# EAGLE library part LIS3DSH (library IntegratedLib)
ultra-low-power highperformance three-axis linear accelerometer. (LGA-16)
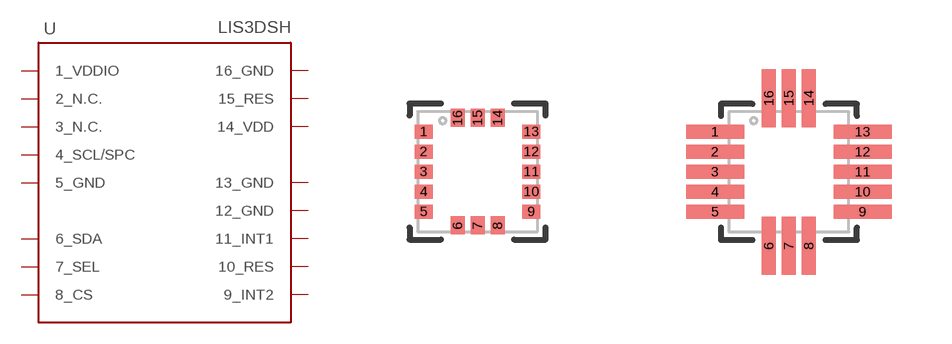
[diagram p21: symbol with the pads of LGA-16_3X3X1MM; footprints LGA-16_3X3X1MM, LGA-16_3X3X1MM(LONG-PADS)]

Designator prefix U

## LIS3DSH (FABRICANTE: ST; PARTNUMBER: LIS3DSH; TIPO: CIRCUITO INTEGRADO)  [LGA-16_3X3X1MM]
1  1_VDDIO
2  2_N.C.
3  3_N.C.
4  4_SCL/SPC
5  5_GND
6  6_SDA
7  7_SEL
8  8_CS
9  9_INT2
10  10_RES
11  11_INT1
12  12_GND
13  13_GND
14  14_VDD
15  15_RES
16  16_GND

## LIS3DSHLONG-PADS  [LGA-16_3X3X1MM(LONG-PADS)]
Pads as for LGA-16_3X3X1MM

## Footprint LGA-16_3X3X1MM (pad centres in mm)
smd 0.45 x 0.35: 1 -1.346,1; 2 -1.346,0.5; 3 -1.346,0; 4 -1.346,-0.5; 5 -1.346,-1; 9 1.346,-1; 10 1.346,-0.5; 11 1.346,0; 12 1.346,0.5; 13 1.346,1
smd 0.35 x 0.45: 6 -0.5,-1.346; 7 0,-1.346; 8 0.5,-1.346; 14 0.5,1.346; 15 0,1.346; 16 -0.5,1.346

## Footprint LGA-16_3X3X1MM(LONG-PADS) (pad centres in mm)
smd 1.45 x 0.35: 1 -1.846,1; 2 -1.846,0.5; 3 -1.846,0; 4 -1.846,-0.5; 5 -1.846,-1; 9 1.846,-1; 10 1.846,-0.5; 11 1.846,0; 12 1.846,0.5; 13 1.846,1
smd 0.35 x 1.45: 6 -0.5,-1.846; 7 0,-1.846; 8 0.5,-1.846; 14 0.5,1.846; 15 0,1.846; 16 -0.5,1.846